# Altium footprint library Microcontroller.PcbLib: 1 footprints
Each footprint in its own frame and in the unit in brackets; x right, y up, seen from the top. Pads: shape width x height; smd on the part's side, far side on the other; paste and mask are expansions set on the pad; w line width, h text height; cw(c..) or ccw(c..) is an arc to the next point about the centre after c.
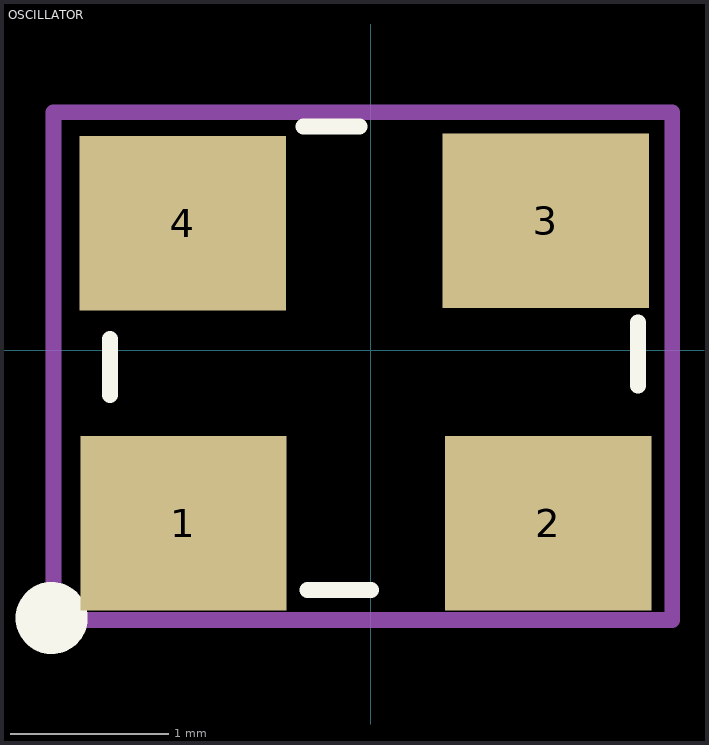
[diagram p0: the footprint, top view; thin cyan lines are the x and y axes]

## OSCILLATOR [mm] "8MHZ 12.5pF"
pads (4):
  rect 1.3x1.1 smd mask+0.05: 1(-1.181,-1.09) 2(1.119,-1.09) 3(1.103,0.817) 4(-1.186,0.801)
Top Overlay:
  circle w0.254: c-2.012,-1.689 r0.1
  lines w0.1: -1.645,-0.282 -1.645,0.072 ; -0.424,1.41 -0.07,1.41 ; -0.399,-1.511 0.001,-1.511 ; 1.684,-0.224 1.684,0.176
Mechanical 3:
  circle w0.254: c-1.416,-1.124 r0.1
Mechanical 15:
  lines w0.1: -2,-1.8 -1.9,-1.7 1.9,-1.7 1.9,1.5 -2,1.5 -2,-1.8
3D body "ASE3.STEP": height 1.22, standoff -0.03, extent -1.579,-1.241 1.621,1.259